# Altium footprint library Discrete.PCBLIB: 128 footprints (part 5 of 8)
Each footprint in its own frame and in the unit in brackets; x right, y up, seen from the top. Pads: shape width x height; smd on the part's side, far side on the other; paste and mask are expansions set on the pad; w line width, h text height; cw(c..) or ccw(c..) is an arc to the next point about the centre after c.
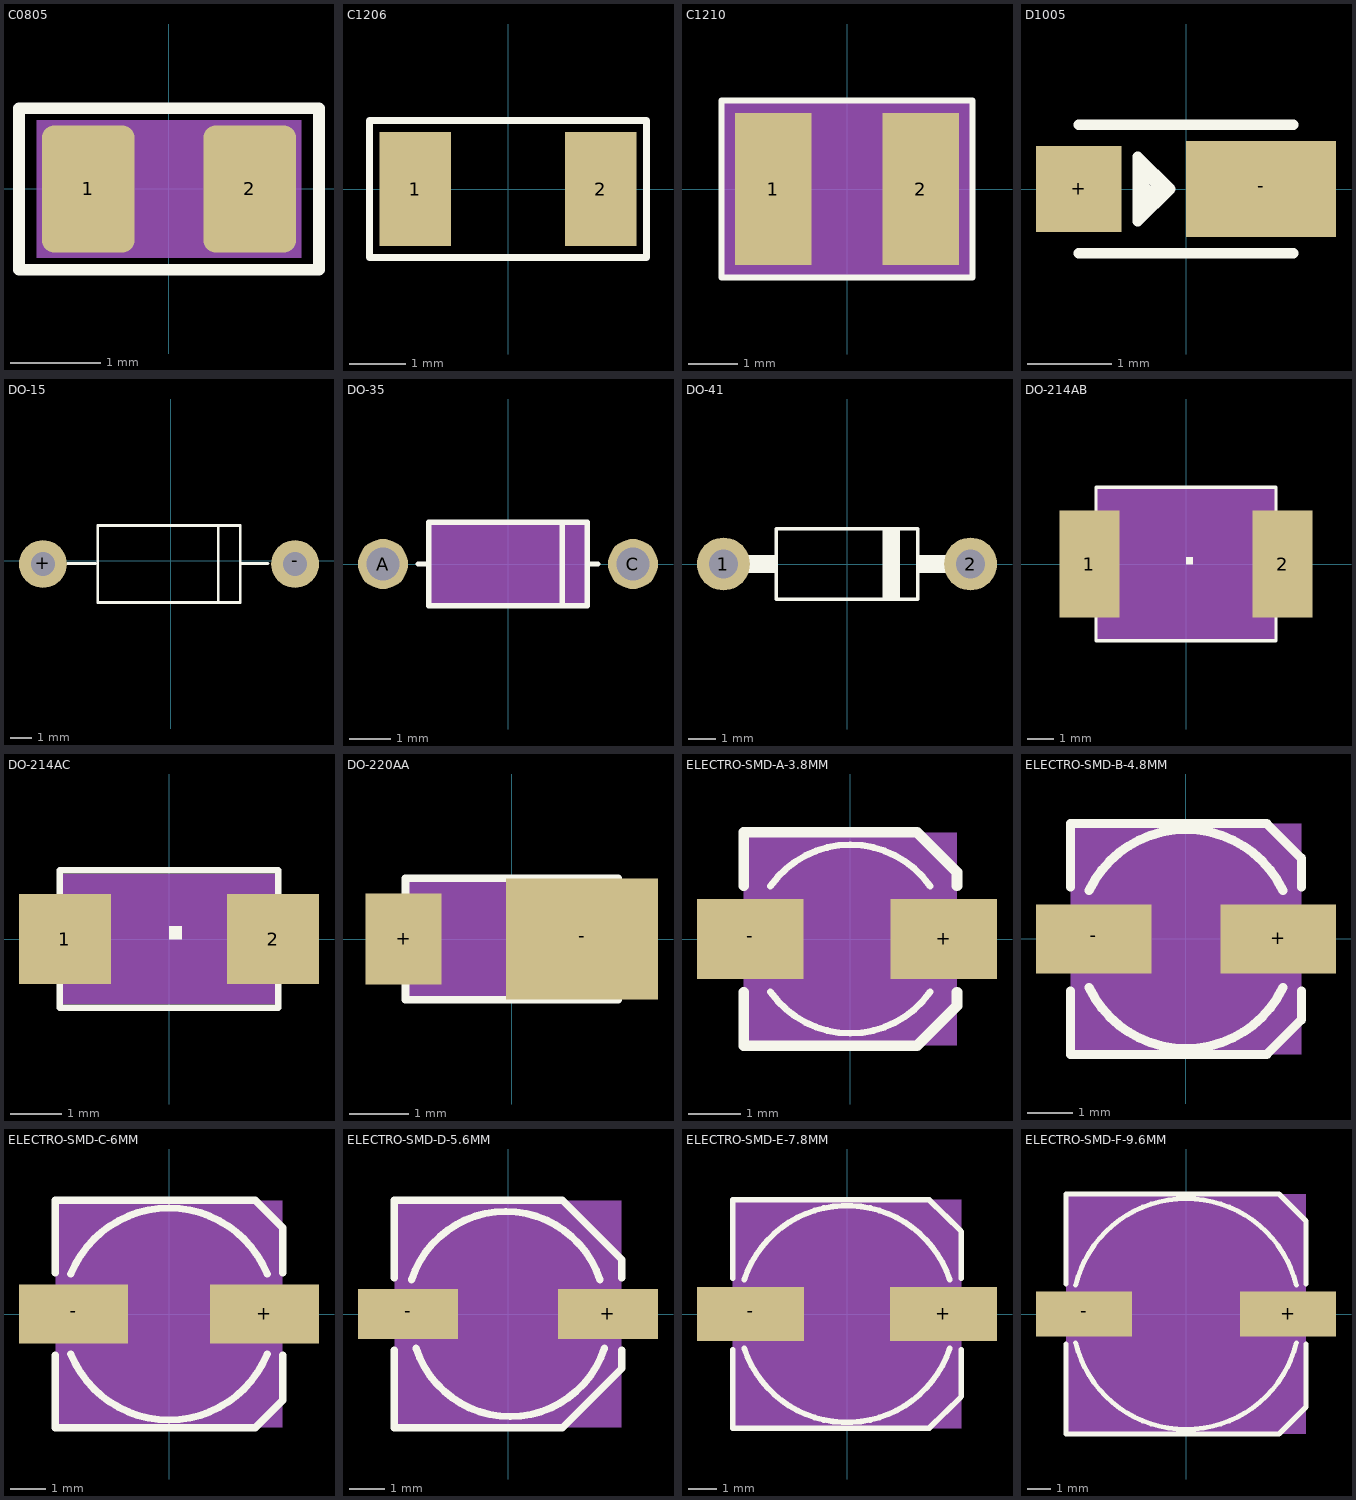
[diagram p4: the footprints below, top view; thin cyan lines are the x and y axes]

## C0805 [mil]
pads (2):
  rrect25% 40x55 smd: 1(-35,0) 2(35,0)
Top Overlay:
  lines w5: -65,-35 65,-35 65,35 -65,35 -65,-35
Mechanical 27:
  rectangle: -57.5,-30 57.5,30

## C1206 [mil]
pads (2):
  rect 50x80 smd: 1(-65,0) 2(65,0)
Top Overlay:
  lines w5: -97,-48 97,-48 97,48 -97,48 -97,-48

## C1210 [mil]
pads (2):
  rect 61.02x122.05 smd: 1(-59.06,0) 2(59.06,0)
Top Overlay:
  lines w5: -100.39,-70.87 100.39,-70.87 100.39,70.87 -100.39,70.87 -100.39,-70.87
Mechanical 27:
  rectangle: -100,-70 100,70

## D1005 [mil]
pads (2):
  rect 40x40 smd: +(-50,0)
  rect 70x45 smd: -(35,0)
Top Overlay:
  lines w5: -50,-30 50,-30 ; -50,30 50,30 ; -22.5,-7.5 -22.5,-15 -7.5,0 ; -22.5,-7.5 -22.5,7.5 ; -22.5,-7.5 -7.5,0 ; -22.5,-7.5 -17.5,-2.5 ; -22.5,7.5 -22.5,15 -7.5,0 ; -22.5,7.5 -12.5,2.5 -17.5,-2.5 ; -22.5,7.5 -17.5,-2.5

## DO-15 [mil]
pads (2):
  round 86 hole 43.31: +(-229.33,-6.1) -(223.43,-6.1)
Top Overlay:
  lines w5: -185,-5 -135,-5 ; 175,-5 125,-5 ; 85.63,-75 125,-75 125,-5 ; 85.63,-75 -130.91,-75 -130.91,62.8 85.63,62.8 ; 85.63,-75 85.63,62.8 ; 85.63,62.8 125,62.8 125,-5

## DO-35 [mil]
pads (2):
  round 47.25 hole 31.5: A(-118.11,0) C(118.11,0)
Top Overlay:
  lines w5: -85,0 -75,0 ; 75,0 85,0 ; 51.18,-39.37 74.8,-39.37 74.8,39.37 51.18,39.37 ; 51.18,-39.37 -74.8,-39.37 -74.8,39.37 51.18,39.37 ; 51.18,-39.37 51.18,39.37
Mechanical 27:
  region: 75,40 -75,40 -75,-40 75,-40

## DO-41 [mil]
pads (2):
  round 75 hole 41: 1(-175,0) 2(175,0)
Top Overlay:
  rectangle: 50,-50 75,50
  rectangle: -150,-12.5 -100,12.5
  rectangle: 100,-12.5 150,12.5
  lines w5: -100,-50 100,-50 100,50 -100,50 -100,-50

## DO-214AB [mil]
pads (2):
  rect 90x160 smd: 1(-145,0) 2(145,0)
Top Overlay:
  region: 0,0 10,0 10,10 0,10
  lines w5: -135,-115 135,-115 135,115 -135,115 -135,-115
Mechanical 27:
  region: 135,115 -135,115 -135,-115 135,-115

## DO-214AC [mil]
pads (2):
  rect 70.87x69.69 smd: 1(-80.39,0) 2(80.39,0)
Top Overlay:
  region: 0,0 10,0 10,10 0,10
  lines w5: -84.45,-53.15 84.45,-53.15 84.45,53.15 -84.45,53.15 -84.45,-53.15
Mechanical 27:
  rectangle: -85,-50 85,50

## DO-220AA [mil]
pads (2):
  rect 50x60 smd: +(-71.3,0)
  rect 100x80 smd: -(46.3,0)
Top Overlay:
  region: 0,0 10,0 10,10 0,10
  lines w5: -70,-40 -70,40 70,40 70,-40 -70,-40
Mechanical 27:
  region: 70,40 -70,40 -70,-40 70,-40

## ELECTRO-SMD-A-3.8MM [mil]
pads (2):
  rect 80x60 smd: +(70,0) -(-75,0)
Top Overlay:
  lines w5: -60,-39.5 ccw(c0,2.45) 60,-39.5 ; -60,39.5 cw(c0,-2.45) 60,39.5
  lines w8: -80,-40 -80,-80 50,-80 80,-50 80,-40 ; -80,40 -80,80 50,80 80,50 80,40
Mechanical 27:
  rectangle: -80,-80 80,80

## ELECTRO-SMD-B-4.8MM [mil]
pads (2):
  rect 100x60 smd: +(80,0) -(-80,0)
Top Overlay:
  lines w8: -100,-45 -100,-100 70,-100 100,-70 100,-45 ; -100,45 -100,100 70,100 100,70 100,45 ; -84,-42 ccw(c0,-1.98) 84,-42 ; -84,42 cw(c0,1.98) 84,42
Mechanical 27:
  rectangle: -100,-100 100,100

## ELECTRO-SMD-C-6MM [mil]
pads (2):
  rect 120x65 smd: +(105,0) -(-105,0)
Top Overlay:
  lines w8: -125,-45 -125,-125 95,-125 125,-95 125,-45 ; -125,45 -125,125 95,125 125,95 125,45 ; -108,-44 ccw(c0,0) 108,-44 ; -108,44 cw(c0,0) 108,44
Mechanical 27:
  rectangle: -125,-125 125,125

## ELECTRO-SMD-D-5.6MM [mil]
pads (2):
  rect 110x55 smd: +(110,0) -(-110,0)
Top Overlay:
  lines w8: -125,-40 -125,-125 60,-125 125,-60 125,-40 ; -125,40 -125,125 60,125 125,60 125,40 ; -106.14,37.4 cw(c-2.5,3.94) 101.14,37.4 ; -101.14,-37.4 ccw(c2.5,-3.94) 106.14,-37.4
Mechanical 27:
  rectangle: -125,-125 125,125

## ELECTRO-SMD-E-7.8MM [mil]
pads (2):
  rect 150x75 smd: +(135,0) -(-135,0)
Top Overlay:
  lines w8: -160,-50 -160,-160 115,-160 159.45,-116.14 ; -160,50 -160,160 115,160 159.45,116.14 ; -144,-48 ccw(c0,0) 144,-48 ; -144,48 cw(c0,0) 144,48 ; 160,-115 160,-50 ; 160,50 160,115
Mechanical 27:
  rectangle: -160,-160 160,160

## ELECTRO-SMD-F-9.6MM [mil]
pads (2):
  rect 160x75 smd: +(170,0) -(-170,0)
Top Overlay:
  lines w8: -200,-50 -200,-200 155,-200 200,-155 200,-50 ; -200,50 -200,200 155,200 200,155 200,50 ; -184,-48 ccw(c0,-3) 184,-48 ; -184,48 cw(c0,3) 184,48
Mechanical 27:
  rectangle: -200,-200 200,200